# Altium footprint library parts.PCBLIB: 93 footprints (part 2 of 6)
Each footprint in its own frame and in the unit in brackets; x right, y up, seen from the top. Pads: shape width x height; smd on the part's side, far side on the other; paste and mask are expansions set on the pad; w line width, h text height; cw(c..) or ccw(c..) is an arc to the next point about the centre after c.
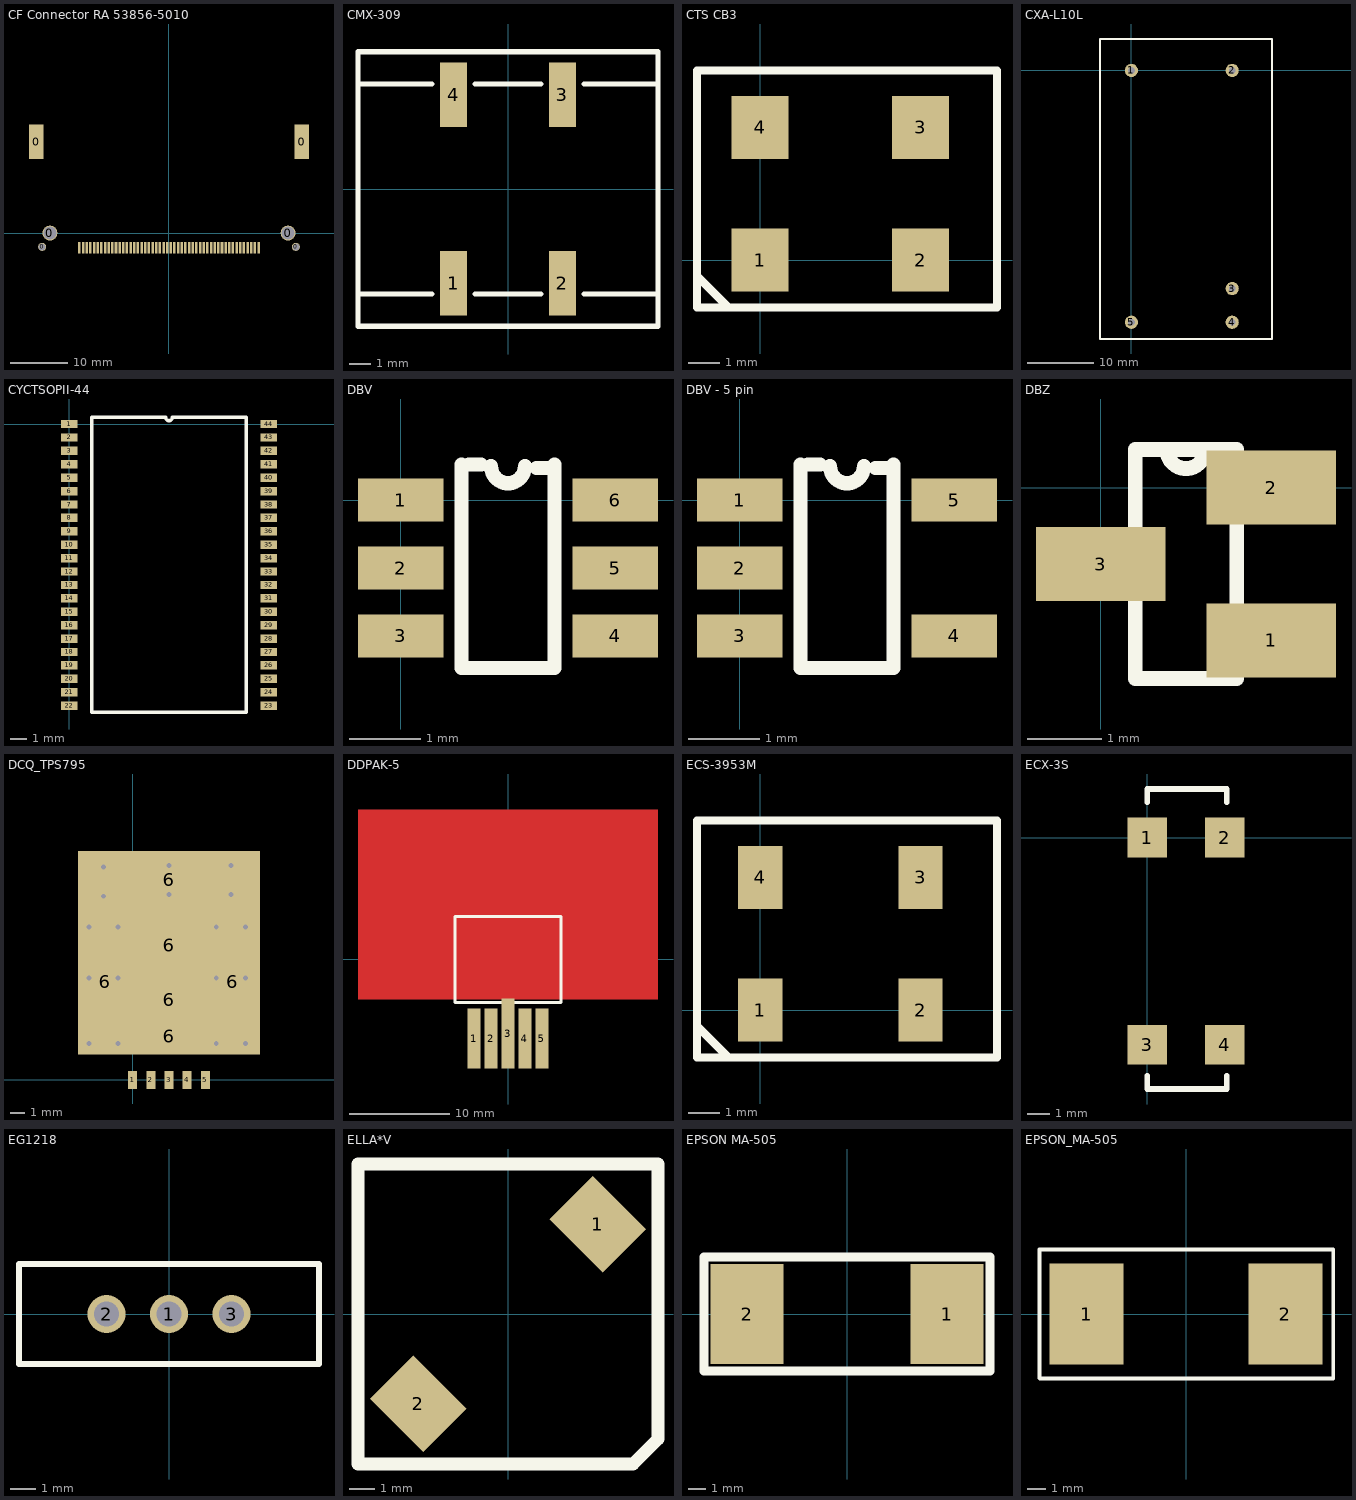
[diagram p1: the footprints below, top view; thin cyan lines are the x and y axes]

## CF Connector RA 53856-5010 [mm] "Molex CF connector, 53856-5010"
pads (56):
  rect 2.5x6 smd: 0(-23.065,15.9) 0(23.065,15.9)
  round 1.4 hole 1.2: 0(-22.035,-2.4) 0(22.035,-2.4)
  round 2.6 hole 2.3: 0(-20.685,0) 0(20.685,0)
  rect 0.44x2 smd: 1(15.557,-2.6) 2(14.287,-2.6) 3(13.018,-2.6) 4(11.747,-2.6) 5(10.477,-2.6) 6(9.207,-2.6) 7(7.938,-2.6) 8(6.667,-2.6) 9(5.397,-2.6) 10(4.127,-2.6) 11(2.857,-2.6) 12(1.587,-2.6) 13(0.318,-2.6) 14(-0.953,-2.6) 15(-2.222,-2.6) 16(-3.492,-2.6) 17(-4.763,-2.6) 18(-6.032,-2.6) 19(-7.302,-2.6) 20(-8.572,-2.6) 21(-9.842,-2.6) 22(-11.112,-2.6) 23(-12.383,-2.6) 24(-13.652,-2.6) 25(-14.922,-2.6) 26(14.922,-2.6) 27(13.652,-2.6) 28(12.383,-2.6) 29(11.112,-2.6) 30(9.842,-2.6) 31(8.572,-2.6) 32(7.302,-2.6) 33(6.032,-2.6) 34(4.763,-2.6) 35(3.492,-2.6) 36(2.222,-2.6) 37(0.953,-2.6) 38(-0.318,-2.6) 39(-1.587,-2.6) 40(-2.857,-2.6) 41(-4.127,-2.6) 42(-5.397,-2.6) 43(-6.667,-2.6) 44(-7.938,-2.6) 45(-9.207,-2.6) 46(-10.477,-2.6) 47(-11.747,-2.6) 48(-13.018,-2.6) 49(-14.287,-2.6) 50(-15.557,-2.6)

## CMX-309 [mm] "Citizen CMX-309 Clock Oscillator pad"
pads (4):
  rect 1.27x3 smd: 1(-2.54,-4.4) 2(2.54,-4.4) 3(2.54,4.4) 4(-2.54,4.4)
TopOverlay:
  lines w0.254: -7,-4.9 -3.556,-4.9 ; -7,4.9 -3.556,4.9 ; -1.524,-4.9 1.524,-4.9 ; -1.524,4.9 1.524,4.9 ; 3.556,-4.9 7,-4.9 ; 3.556,4.9 7,4.9 ; -7,-6.4 -7,6.4 7,6.4 7,-6.4 -7,-6.4

## CTS CB3 [mm]
pads (4):
  rect 1.8x2 smd: 1(0,0) 2(5.08,0) 3(5.08,4.2) 4(0,4.2)
TopOverlay:
  lines w0.254: -2,-0.5 -1,-1.5 ; -2,-1.5 -2,6 7.5,6 7.5,-1.5 -2,-1.5

## CXA-L10L [mm] "CCFL power inverter"
pads (5):
  round 2 hole 1: 1(0,0) 2(15.24,0) 3(15.24,-33) 4(15.24,-38.1) 5(0,-38.1)
TopOverlay:
  lines w0.254: -4.763,-40.64 -4.763,4.763 21.273,4.763 21.273,-40.64 -3.81,-40.64 -4.445,-40.64 -4.763,-40.64

## CYCTSOPII-44 [mm]
pads (44):
  rect 1x0.5 smd: 1(0,0) 2(0,-0.8) 3(0,-1.6) 4(0,-2.4) 5(0,-3.2) 6(0,-4) 7(0,-4.8) 8(0,-5.6) 9(0,-6.4) 10(0,-7.2) 11(0,-8) 12(0,-8.8) 13(0,-9.6) 14(0,-10.4) 15(0,-11.2) 16(0,-12) 17(0,-12.8) 18(0,-13.6) 19(0,-14.4) 20(0,-15.2) 21(0,-16) 22(0,-16.8) 23(11.9,-16.8) 24(11.9,-16) 25(11.9,-15.2) 26(11.9,-14.4) 27(11.9,-13.6) 28(11.9,-12.8) 29(11.9,-12) 30(11.9,-11.2) 31(11.9,-10.4) 32(11.9,-9.6) 33(11.9,-8.8) 34(11.9,-8) 35(11.9,-7.2) 36(11.9,-6.4) 37(11.9,-5.6) 38(11.9,-4.8) 39(11.9,-4) 40(11.9,-3.2) 41(11.9,-2.4) 42(11.9,-1.6) 43(11.9,-0.8) 44(11.9,0)
TopOverlay:
  lines w0.2: 1.335,-17.2 1.335,0.4 5.75,0.4 ccw(c5.95,0.4) 6.15,0.4 10.565,0.4 10.565,-17.2 1.335,-17.2

## DBV [mm]
pads (6):
  rect 1.2x0.6 smd: 1(0,0) 2(0,-0.95) 3(0,-1.9) 4(3,-1.9) 5(3,-0.95) 6(3,0)
TopOverlay:
  lines w0.2: 0.85,-2.35 0.85,0.5 ; 0.9,-2.35 2.1,-2.35 ; 0.95,0.5 1.123,0.5 ; 1.263,0.475 ccw(c1.5,0.475) 1.737,0.475 ; 1.9,0.45 2.072,0.45 ; 2.15,-2.35 2.15,0.5

## DBV - 5 pin [mm]
pads (5):
  rect 1.2x0.6 smd: 1(0,0) 2(0,-0.95) 3(0,-1.9) 4(3,-1.9) 5(3,0)
TopOverlay:
  lines w0.2: 0.85,-2.35 0.85,0.5 ; 0.9,-2.35 2.1,-2.35 ; 0.95,0.5 1.123,0.5 ; 1.263,0.475 ccw(c1.5,0.475) 1.737,0.475 ; 1.9,0.45 2.072,0.45 ; 2.15,-2.35 2.15,0.5

## DBZ [mm]
pads (3):
  rect 1.75x1 smd: 1(2.3,-2.06) 2(2.3,0) 3(0,-1.03)
TopOverlay:
  lines w0.2: 0.465,-2.575 1.835,-2.575 1.835,0.515 0.893,0.515 ccw(c1.15,0.515) 1.408,0.515 0.465,0.515 0.465,-2.575

## DCQ_TPS795 [mil] "Plastic small outline voltage reg"
pads (29):
  rect 25x50 smd: 1(0,0) 2(50,0) 3(100,0) 4(150,0) 5(200,0)
  rect 20x20 hole 13.5 mask-30: 6(-120,100) 6(-120,420) 6(-80,505) 6(-80,585) 6(-40,100) 6(-40,280) 6(-40,420) 6(100,590) 6(230,100) 6(230,420) 6(270,510) 6(270,590) 6(310,100) 6(310,280) 6(310,420)
  rect 20x20 hole 13.5 mask-20: 6(-120,280) 6(100,510) 6(230,280)
  rect 150x400 smd paste-300 mask-300: 6(-75,270)
  rect 200x100 smd mask-200: 6(100,120)
  rect 200x100 smd: 6(100,220)
  rect 200x200 smd paste-200 mask-200: 6(100,370)
  rect 500x160 smd paste-400 mask-400: 6(100,550)
  rect 150x400 smd paste-200 mask-300: 6(275,270)

## DDPAK-5 [mm]
pads (5):
  rect 1.3x6 smd: 1(-3.4,-7.9) 2(-1.7,-7.9) 4(1.7,-7.9) 5(3.4,-7.9)
  rect 1.3x7 smd: 3(0,-7.4)
TopLayer:
  rectangle: -15,-4 15,15
TopOverlay:
  lines w0.254: -5.3,-4.3 -5.3,4.3 5.3,4.3 5.3,-4.3 -5.3,-4.3

## ECS-3953M [mm] "ECS SMD CLOCK OSCILLATOR"
pads (4):
  rect 1.4x2 smd: 1(0,0) 2(5.08,0) 3(5.08,4.2) 4(0,4.2)
TopOverlay:
  lines w0.254: -2,-0.5 -1,-1.5 ; -2,-1.5 7.5,-1.5 7.5,6 -2,6 -2,-1.5

## ECX-3S [mm]
pads (4):
  rect 1.8x1.8 smd: 1(0,0) 2(3.5,0) 3(0,-9.4) 4(3.5,-9.4)
TopOverlay:
  lines w0.254: 0,-10.8 0,-11.4 3.6,-11.4 3.6,-10.8 ; 0,1.6 0,2.2 3.4,2.2 3.6,2.2 3.6,1.8 3.6,1.6

## EG1218 [mil]
pads (3):
  round 60 hole 40: 1(0,0) 2(-98.42,0) 3(98.42,0)
TopOverlay:
  lines w10: -236.22,-78.74 236.22,-78.74 236.22,78.74 -236.22,78.74 -236.22,-78.74

## ELLA*V [mm] "Chip choke coil  Panasonic ELLATV type"
height 4
pads (2):
  rect 3x2.45 smd rot 135: 1(3.592,3.592) 2(-3.592,-3.592)
TopOverlay:
  lines w0.508: -6,-6 5,-6 6,-5 6,6 -6,6 -6,-6

## EPSON MA-505 [mm] "pattern for epson MA-505 SMT crystal"
pads (2):
  rect 4.1x5.6 smd paste-10.16 mask-10.16: 1(5.6,0) 2(-5.6,0)
TopOverlay:
  lines w0.508: -8,-3.2 -8,3.2 8,3.2 8,-3.2 -8,-3.2

## EPSON_MA-505 [mm]
pads (2):
  rect 4.1x5.6 smd: 1(-5.52,0) 2(5.49,0)
TopOverlay:
  lines w0.203: -8.13,-3.54 -8.1,-3.57 8.13,-3.57 8.13,3.56 8.14,3.57 -8.13,3.57 -8.13,-3.54